# EAGLE library part AT25FS040 (library toyotune)
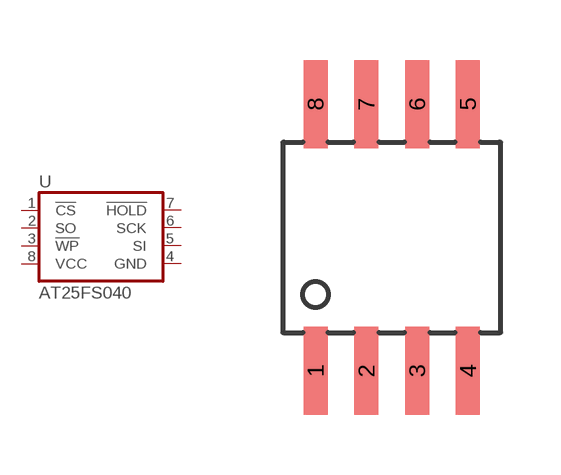
[diagram p23: symbol with the pads of SOIC8-200; footprint SOIC8-200]

Designator prefix -

## AT25FS040  [SOIC8-200]
1  !CS  in
2  SO  out
3  !WP  in
4  GND  pwr
5  SI  in
6  SCK  in
7  !HOLD  in
8  VCC  pwr

## Footprint SOIC8-200 (pad centres in mm)
Small Outline IC
smd 0.6 x 2.2: 1 -1.905,-3.175; 2 -0.635,-3.175; 3 0.635,-3.175; 4 1.905,-3.175; 5 1.905,3.493; 6 0.635,3.493; 7 -0.635,3.493; 8 -1.905,3.493